# Altium footprint library Esperto.PcbLib: 21 footprints (part 2 of 2)
Each footprint in its own frame and in the unit in brackets; x right, y up, seen from the top. Pads: shape width x height; smd on the part's side, far side on the other; paste and mask are expansions set on the pad; w line width, h text height; cw(c..) or ccw(c..) is an arc to the next point about the centre after c.
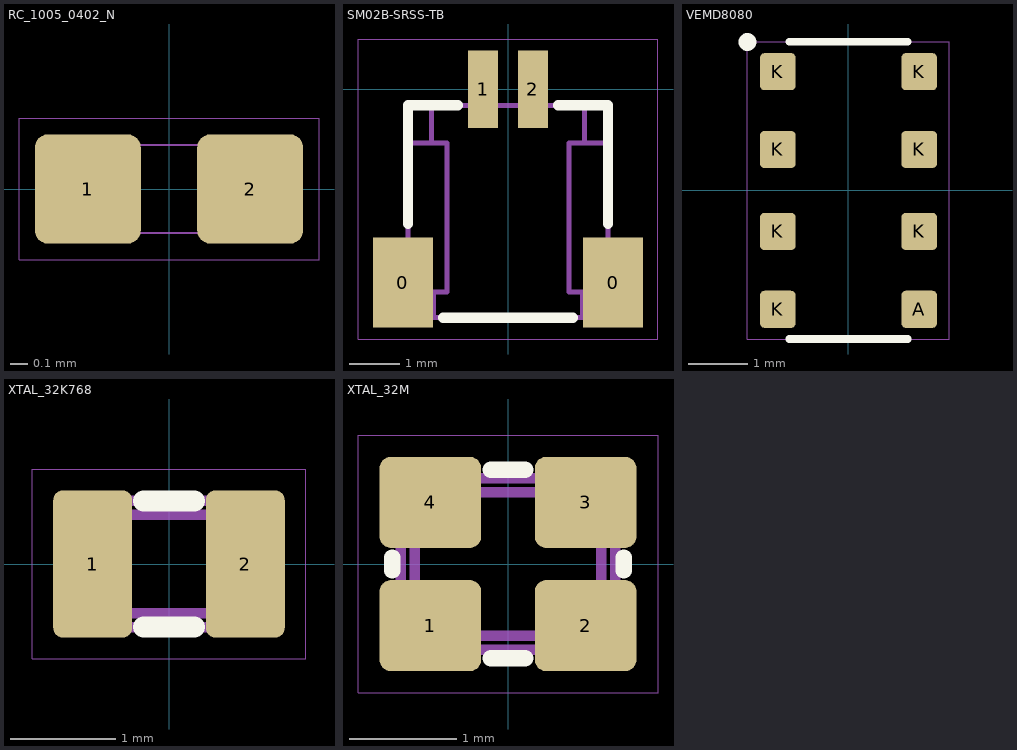
[diagram p1: the footprints below, top view; thin cyan lines are the x and y axes]

## RC_1005_0402_N [mm] "Chip Resistor, 2-Leads, Body 1.0x0.5mm, IPC Medium Density"
height 0.4
pads (2):
  rrect25% 0.6x0.62 smd paste+0 mask+0.064: 1(-0.46,0) 2(0.46,0)
M9 Assy Top:
  lines w0.013: -0.2,-0.25 -0.2,0.25 ; 0.2,-0.25 0.2,0.25 ; -0.55,-0.25 0.55,-0.25 0.55,0.25 -0.55,0.25 -0.55,-0.25
M11 Assy RefDes - Top:
  text ".Designator" at -0.47,-0.06 h0.2
M15 Courtyard Top:
  lines w0: -0.85,-0.4 -0.85,0.4 0.85,0.4 0.85,-0.4 -0.85,-0.4
3D body: height 0.4, standoff 0, extent -0.55,-0.25 -0.3,0.25
3D body: height 0.4, standoff 0, extent -0.3,-0.25 0.3,0.25
3D body: height 0.4, standoff 0, extent 0.3,-0.25 0.55,0.25

## SM02B-SRSS-TB [mm]
pads (4):
  rect 1.2x1.8 smd: 0(-2.1,-3.875) 0(2.1,-3.875)
  rect 0.6x1.55 smd: 1(-0.5,0) 2(0.5,0)
Top Overlay:
  lines w0.203: -2,-2.7 -2,-0.325 -1,-0.325 ; -1.3,-4.575 1.3,-4.575 ; 1,-0.325 2,-0.325 2,-2.7
Mechanical 7:
  lines w0.1: -2,-1.084 -1.527,-1.084 ; -1.527,-0.325 -1.527,-1.084 ; -1.489,-4.575 -1.489,-4.058 -1.216,-4.058 -1.216,-1.084 -1.527,-1.084 ; -0.652,-0.325 -0.652,0.164 cw(c-0.502,0.164) -0.352,0.164 -0.352,-0.325 ; 0.347,-0.325 0.347,0.164 cw(c0.497,0.164) 0.647,0.164 0.647,-0.325 ; 1.489,-4.575 1.489,-4.058 1.216,-4.058 1.216,-1.084 1.527,-1.084 ; 1.527,-0.325 1.527,-1.084 ; 2,-1.084 1.527,-1.084 ; -2,-4.575 2,-4.575 2,-0.325 -2,-0.325 -2,-4.575
  text ".Designator" at -1.5,-2.5 h0.3
M15 Courtyard Top:
  lines w0: -3,-5 3,-5 3,1 -3,1 -3,-5
3D body "JST_SM02B-SRSS-TB.step": height 3, standoff 0, extent -1.994,-4.575 1.994,0.412

## VEMD8080 [mm]
pads (8):
  rrect25% 0.6x0.625 smd mask+0.064: A(1.19,-2) K(-1.19,-2) K(-1.19,-0.69) K(-1.19,0.69) K(-1.19,2) K(1.19,-0.69) K(1.19,0.69) K(1.19,2)
Top Overlay:
  circle w0.2: c-1.7,2.5 r0.05
  lines w0.127: -1,-2.5 1,-2.5 ; -1,2.5 1,2.5
Mechanical 7:
  text ".Designator" at -1.5,-0.2 h0.3
M15 Courtyard Top:
  lines w0: -1.7,-2.5 -1.7,2.5 1.7,2.5 1.7,-2.5 -1.7,-2.5
3D body "MarCom-3D-VEMD8080.stp": height 0.48, standoff 0, extent -1.25,-2.4 1.25,2.4

## XTAL_32K768 [mm]
pads (2):
  rrect25% 0.75x1.4 smd: 1(-0.725,0) 2(0.725,0)
Top Overlay:
  lines w0.2: -0.24,-0.6 0.24,-0.6 ; -0.24,0.6 0.24,0.6
Mechanical 7:
  lines w0.1: -1,-0.5 cw(c-1,-0.6) -0.9,-0.6 0.9,-0.6 cw(c1,-0.6) 1,-0.5 1,0.5 cw(c1,0.6) 0.9,0.6 -0.9,0.6 cw(c-1,0.6) -1,0.5 -1,-0.5 ; -0.87,-0.37 ccw(c-0.77,-0.37) -0.77,-0.47 0.77,-0.47 ccw(c0.77,-0.37) 0.87,-0.37 0.87,0.37 ccw(c0.77,0.37) 0.77,0.47 -0.77,0.47 ccw(c-0.77,0.37) -0.87,0.37 -0.87,-0.37
  text ".Designator" at -0.254,-0.152 h0.3
M15 Courtyard Top:
  lines w0: -1.3,-0.9 -1.3,0.9 1.3,0.9 1.3,-0.9 -1.3,-0.9
3D body "User Library-ABS06.STEP": height 0.6, standoff 0, extent -1,-0.61 1,0.61
3D body: height 0.6, standoff 0.15, extent -0.825,-0.4 0.825,0.4

## XTAL_32M [mm]
pads (4):
  rrect25% 0.95x0.85 smd: 1(-0.725,-0.575) 2(0.725,-0.575) 3(0.725,0.575) 4(-0.725,0.575)
Top Overlay:
  lines w0.152: -1.08,-0.06 -1.08,0.06 ; -0.16,-0.88 0.16,-0.88 ; -0.16,0.88 0.16,0.88 ; 1.08,-0.06 1.08,0.06
Mechanical 7:
  lines w0.1: -1,-0.7 cw(c-1,-0.8) -0.9,-0.8 0.9,-0.8 cw(c1,-0.8) 1,-0.7 1,0.7 cw(c1,0.8) 0.9,0.8 -0.9,0.8 cw(c-1,0.8) -1,0.7 -1,-0.7 ; -0.87,-0.57 ccw(c-0.77,-0.57) -0.77,-0.67 0.77,-0.67 ccw(c0.77,-0.57) 0.87,-0.57 0.87,0.57 ccw(c0.77,0.57) 0.77,0.67 -0.77,0.67 ccw(c-0.77,0.57) -0.87,0.57 -0.87,-0.57
  text ".Designator" at -0.7,-0.2 h0.38
M15 Courtyard Top:
  lines w0: -1.4,-1.2 1.4,-1.2 1.4,1.2 -1.4,1.2 -1.4,-1.1 -1.4,-1.2
3D body: height 0.56, standoff 0.15, extent -0.7,-0.65 0.7,0.65
3D body "User Library-GeyerElectronics_KX5.step": height 0.56, standoff 0, extent -1.05,-0.85 1.05,0.85